# Altium schematic symbol library TB6612FNG.SchLib: 1 symbol
Pins are listed as number, name and electrical type; pins without a type are passive.

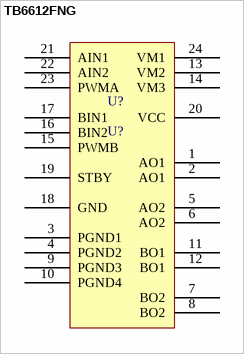
[diagram p0: symbol TB6612FNG]

## TB6612FNG
designator U?, comment U?
footprint TB6612
pins: 1 AO1, 2 AO1, 3 PGND1, 4 PGND2, 5 AO2, 6 AO2, 7 BO2, 8 BO2, 9 PGND3, 10 PGND4, 11 BO1, 12 BO1, 13 VM2, 14 VM3, 15 PWMB, 16 BIN2, 17 BIN1, 18 GND, 19 STBY, 20 VCC, 21 AIN1, 22 AIN2, 23 PWMA, 24 VM1